# EAGLE library part SM_1234_AI4X13BIT-AQ2X14BIT (library e-sps)
SM 1234 AI 4x13bit AQ 2x14bit Source: s71200_easy_book_de-DE_de-DE.pdf
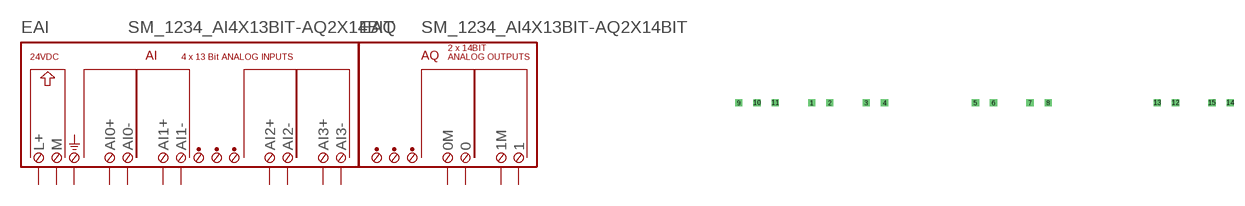
[diagram p11: symbol with the pads of SM_1234_AI4X13BIT-AQ2X14BIT; footprint SM_1234_AI4X13BIT-AQ2X14BIT]

Designator prefix E; gates AI=SM_1234_AI4X13BIT AQ=SM_1234_AQ2X14BIT

## SM_1234_AI4X13BIT-AQ2X14BIT  [SM_1234_AI4X13BIT-AQ2X14BIT]
1  AI:AI0+  pas
2  AI:AI0-  pas
3  AI:AI1+  pas
4  AI:AI1-  pas
5  AI:AI2+  pas
6  AI:AI2-  pas
7  AI:AI3+  pas
8  AI:AI3-  pas
9  AI:L+  pas
10  AI:M  pas
11  AI:PE  pas
12  AQ:0  pas
13  AQ:0M  pas
14  AQ:1  pas
15  AQ:1M  pas

## Footprint SM_1234_AI4X13BIT-AQ2X14BIT (pad centres in mm)
Dummy
drill 0.5 pad 1 square: 1 -35.56,-20.32; 2 -33.02,-20.32; 3 -27.94,-20.32; 4 -25.4,-20.32; 5 -12.7,-20.32; 6 -10.16,-20.32; 7 -5.08,-20.32; 8 -2.54,-20.32; 9 -45.72,-20.32; 10 -43.18,-20.32; 11 -40.64,-20.32; 12 15.24,-20.32; 13 12.7,-20.32; 14 22.86,-20.32; 15 20.32,-20.32